# Altium footprint library Delay_PcbLib.PcbLib: 3 footprints
Each footprint in its own frame and in the unit in brackets; x right, y up, seen from the top. Pads: shape width x height; smd on the part's side, far side on the other; paste and mask are expansions set on the pad; w line width, h text height; cw(c..) or ccw(c..) is an arc to the next point about the centre after c.
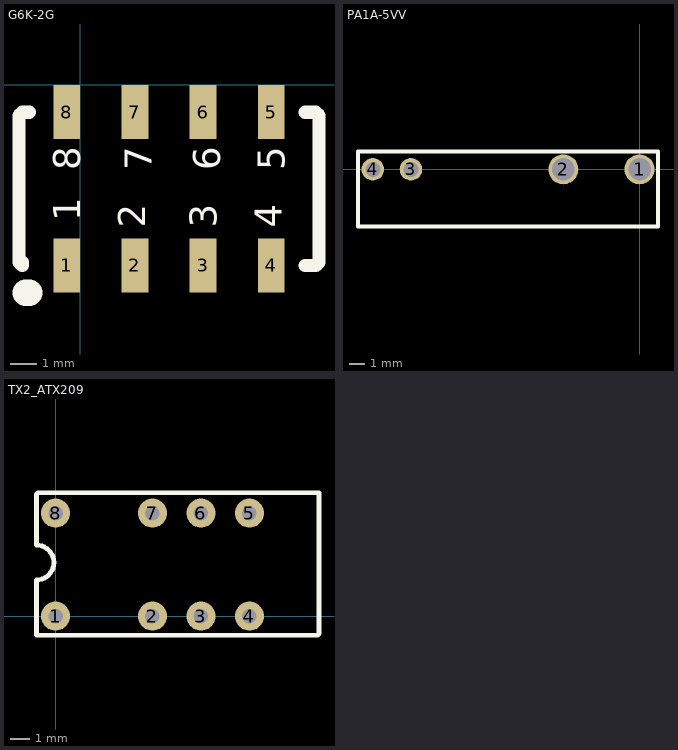
[diagram p0: the footprints below, top view; thin cyan lines are the x and y axes]

## G6K-2G [mil]
pads (8):
  rect 39.37x78.74 smd: 1(-20,-265) 2(80,-265) 3(180,-265) 4(280,-265) 5(280,-40) 6(180,-40) 7(80,-40) 8(-20,-40)
Top Overlay:
  lines w1: -90,-225 -85,-225
  lines w19.68: -75,-40 -85,-40 -90,-45 ; 330,-265 345,-265 350,-260 350,-45 345,-40 330,-40 ; -90,-45 -90,-255 -85,-260 -85,-265 -90,-260 -90,-45
  lines w39.37: -80,-305 -75,-305
  text "1" at 0,-200 h39.37
  text "2" at 95,-210 h39.37
  text "3" at 200,-210 h39.37
  text "4" at 295,-210 h39.37
  text "5" at 300,-125 h39.37
  text "6" at 205,-125 h39.37
  text "7" at 105,-125 h39.37
  text "8" at 0,-125 h39.37

## PA1A-5VV [mm]
pads (4):
  round 2 hole 1.5: 1(-0.005,-0.003) 2(-5.085,-0.003)
  round 1.5 hole 1: 3(-15.245,-0.003) 4(-17.785,-0.003)
Top Overlay:
  lines w0.254: -18.773,-3.815 1.227,-3.815 1.227,1.185 -18.773,1.185 -18.773,-3.815

## TX2_ATX209 [mil]
pads (8):
  round 60 hole 30: 1(0,0) 2(200,0) 3(300,0) 4(400,0) 5(400,212.6) 6(300,212.6) 7(200,212.6) 8(0,212.6)
Top Overlay:
  lines w10: -39.37,251.63 -36.37,254.63 ; -39.37,251.63 -39.37,146.63 cw(c-39.37,110.63) -3.37,110.63 cw(c-39.37,110.63) -39.37,74.63 -39.37,-39.37 540.63,-39.37 543.63,-36.37 543.63,254.63 -36.37,254.63 ; -39.37,251.63 -36.37,254.63